# EAGLE library part RGB (library TinyNES_Library)
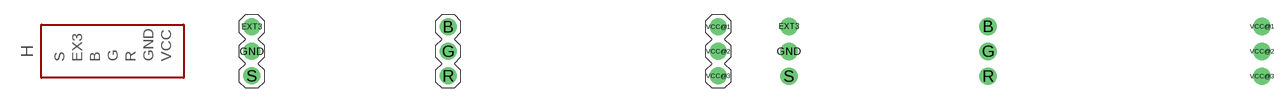
[diagram p18: symbol with the pads of RGB-TOP; footprints RGB-TOP, RGB-BOT]

Designator prefix H

## RGB-TOP  [RGB-TOP]
B  B
EXT3  EX3
G  G
GND  GND
R  R
S  S
VCC@1  VCC
VCC@2  VCC
VCC@3  VCC

## RGB-BOT  [RGB-BOT]
Pads as for RGB-TOP

## Footprint RGB-TOP (pad centres in mm)
drill 1.016 pad 1.778: B -3.81,2.54; EXT3 -24.13,2.54; G -3.81,0; GND -24.13,0; R -3.81,-2.54; S -24.13,-2.54; VCC@1 24.13,2.54; VCC@2 24.13,0; VCC@3 24.13,-2.54

## Footprint RGB-BOT (pad centres in mm)
drill 1.016 pad 1.778: B -3.81,2.54; EXT3 -24.13,2.54; G -3.81,0; GND -24.13,0; R -3.81,-2.54; S -24.13,-2.54; VCC@1 24.13,2.54; VCC@2 24.13,0; VCC@3 24.13,-2.54